# Altium footprint library Diode-Bridge.PcbLib: 18 footprints (part 1 of 2)
Each footprint in its own frame and in the unit in brackets; x right, y up, seen from the top. Pads: shape width x height; smd on the part's side, far side on the other; paste and mask are expansions set on the pad; w line width, h text height; cw(c..) or ccw(c..) is an arc to the next point about the centre after c.
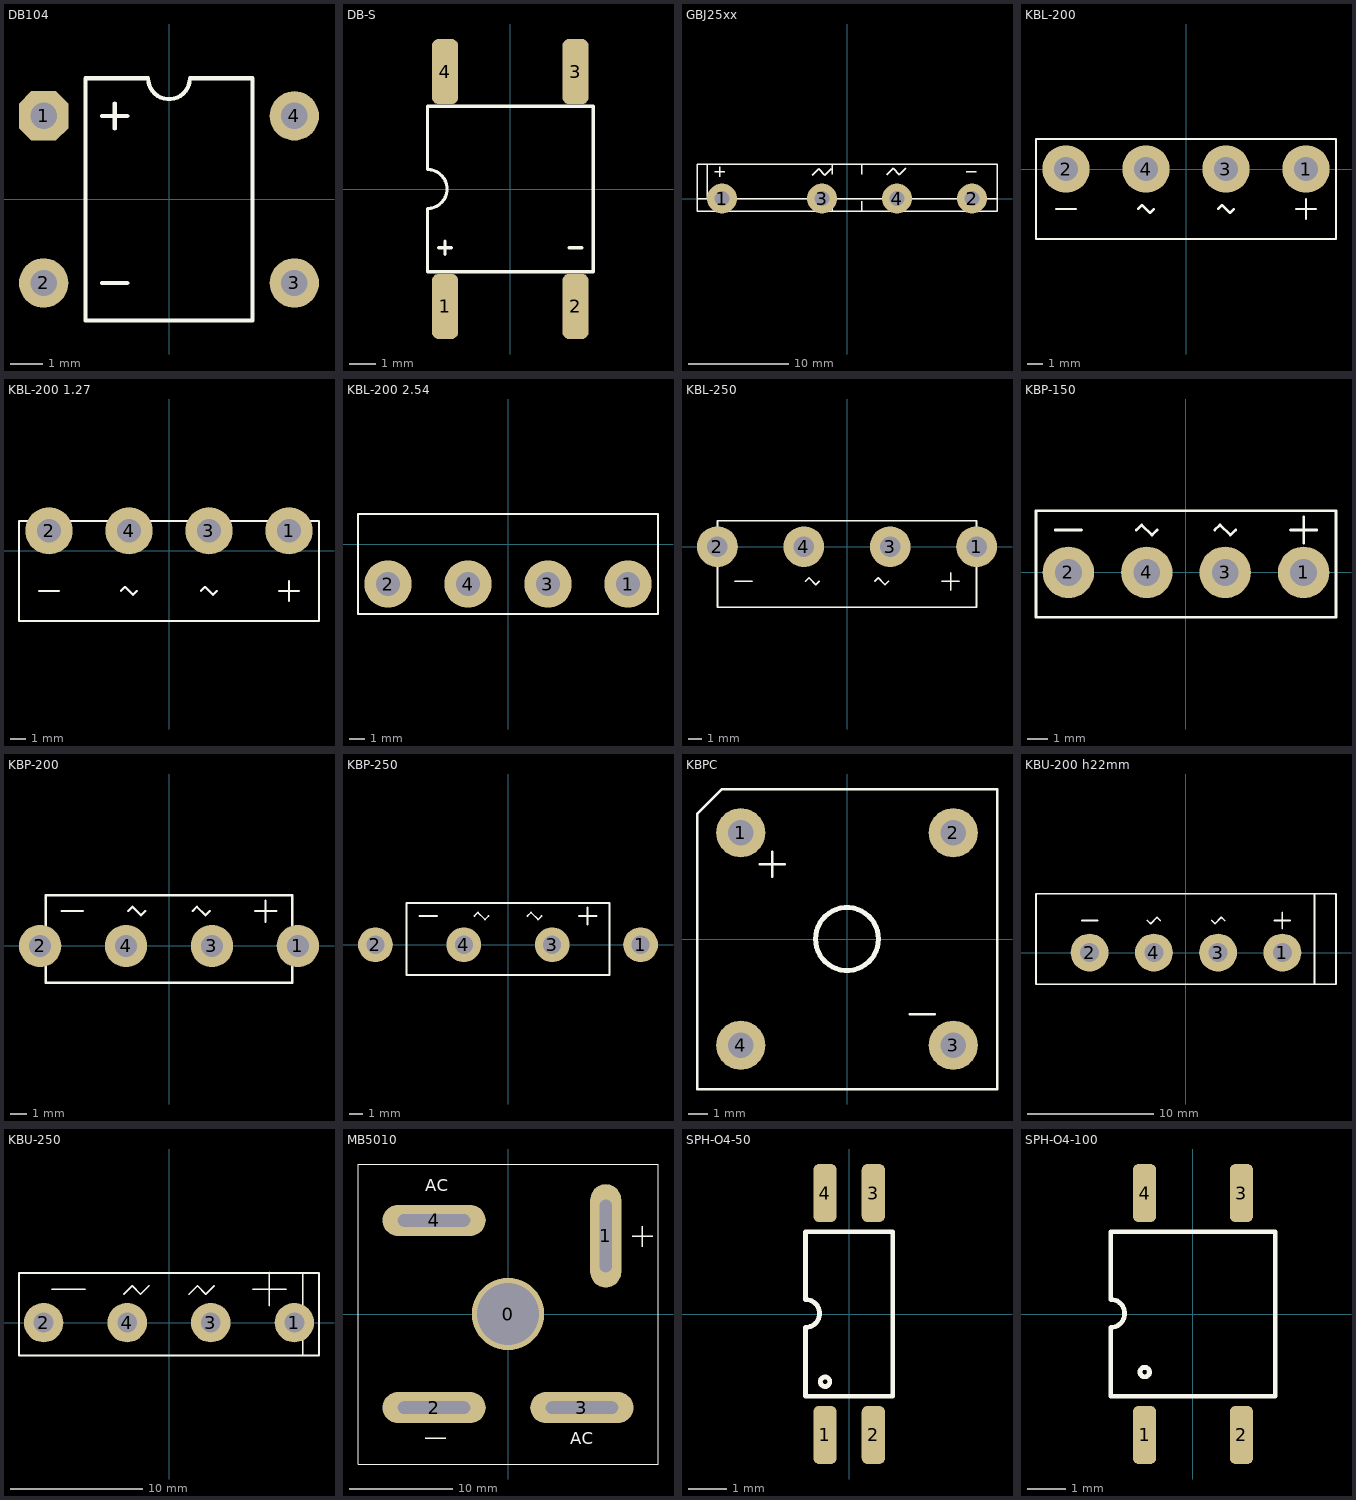
[diagram p0: the footprints below, top view; thin cyan lines are the x and y axes]

## DB104 [mm]
pads (4):
  oct 1.5x1.5 hole 0.8: 1(-3.81,2.54)
  round 1.5 hole 0.8: 2(-3.81,-2.54) 3(3.81,-2.54) 4(3.81,2.54)
Top Overlay:
  lines w0.127: -2.032,-2.54 -1.27,-2.54 ; -2.032,2.54 -1.27,2.54 ; -1.651,2.159 -1.651,2.921 ; -2.54,-3.683 2.54,-3.683 2.54,3.683 0.635,3.683 cw(c0,3.683) -0.635,3.683 -2.54,3.683 -2.54,-3.683
3D body: height 3.8, standoff -2.52, extent -3.993,-3.84 3.99,3.86

## DB-S [mm] "SMD 5mm x 9mm"
pads (4):
  rrect50% 1x2.5 smd: 1(-2.5,-4.5) 2(2.5,-4.5) 3(2.5,4.5) 4(-2.5,4.5)
Top Overlay:
  lines w0.127: -2.75,-2.25 -2.25,-2.25 ; -2.5,-2.5 -2.5,-2 ; 2.25,-2.25 2.75,-2.25 ; -3.175,-3.175 -3.175,-0.75 ccw(c-3.175,0) -3.175,0.75 -3.175,3.175 3.175,3.175 3.175,-3.175 -3.175,-3.175
3D body: height 3.35, standoff -0.05, extent -4.575,-5.025 4.575,5.025

## GBJ25xx [mm]
pads (4):
  round 3 hole 1.5: 1(-12.5,0) 2(12.5,0) 3(-2.5,0) 4(5,0)
Top Overlay:
  lines w0.127: -15,0 15,0 ; -14,0 -14,3.4 ; -13.2,2.667 -12.2,2.667 ; -12.7,2.167 -12.7,3.167 ; -3.484,2.341 -2.849,2.976 -2.214,2.341 -1.579,2.976 ; -1.5,-1.27 -1.5,-0.27 ; -1.5,2.4 -1.5,3.4 ; 1.5,-1.27 1.5,-0.27 ; 1.5,2.4 1.5,3.4 ; 3.969,2.388 4.604,3.023 5.239,2.388 5.874,3.023 ; 11.946,2.667 12.946,2.667 ; -15,-1.27 15,-1.27 15,3.4 -15,3.4 -15,-1.27
3D body: height 28, standoff -2, extent -15,-1.2 15,3.4

## KBL-200 [mm]
pads (4):
  round 3 hole 1.5: 1(7.62,0) 2(-7.62,0) 3(2.54,0) 4(-2.54,0)
Top Overlay:
  lines w0.127: -8.255,-2.54 -6.985,-2.54 ; -3.048,-2.54 -2.794,-2.286 -2.286,-2.794 -2.032,-2.54 ; 2.032,-2.54 2.286,-2.286 2.794,-2.794 3.048,-2.54 ; 6.985,-2.54 8.255,-2.54 ; 7.62,-3.175 7.62,-1.905 ; -9.525,-4.445 -9.525,1.905 9.525,1.905 9.525,-4.445 -9.525,-4.445
3D body: height 22.75, standoff -3.16, extent -9.5,-4.5 9.5,2

## KBL-200 1.27 [mm]
pads (4):
  round 3 hole 1.5: 1(7.62,1.27) 2(-7.62,1.27) 3(2.54,1.27) 4(-2.54,1.27)
Top Overlay:
  lines w0.127: -8.255,-2.54 -6.985,-2.54 ; -3.048,-2.54 -2.794,-2.286 -2.286,-2.794 -2.032,-2.54 ; 2.032,-2.54 2.286,-2.286 2.794,-2.794 3.048,-2.54 ; 6.985,-2.54 8.255,-2.54 ; 7.62,-3.175 7.62,-1.905 ; -9.525,-4.445 -9.525,1.905 9.525,1.905 9.525,-4.445 -9.525,-4.445
3D body: height 20.75, standoff -2.62, extent -9.5,-4.5 9.5,2

## KBL-200 2.54 [mm]
pads (4):
  round 3 hole 1.5: 1(7.62,-2.54) 2(-7.62,-2.54) 3(2.54,-2.54) 4(-2.54,-2.54)
Top Overlay:
  lines w0.127: -8.255,-2.54 -6.985,-2.54 ; -3.048,-2.54 -2.794,-2.286 -2.286,-2.794 -2.032,-2.54 ; 2.032,-2.54 2.286,-2.286 2.794,-2.794 3.048,-2.54 ; 6.985,-2.54 8.255,-2.54 ; 7.62,-3.175 7.62,-1.905 ; -9.525,-4.445 9.525,-4.445 9.525,1.905 -9.525,1.905 -9.525,-4.445
3D body: height 20.75, standoff -2.62, extent -9.5,-4.5 9.5,2

## KBL-250 [mm]
pads (4):
  round 3 hole 1.5: 1(9.525,0) 2(-9.525,0) 3(3.175,0) 4(-3.175,0)
Top Overlay:
  lines w0.127: -8.255,-2.54 -6.985,-2.54 ; -3.048,-2.54 -2.794,-2.286 -2.286,-2.794 -2.032,-2.54 ; 2.032,-2.54 2.286,-2.286 2.794,-2.794 3.048,-2.54 ; 6.985,-2.54 8.255,-2.54 ; 7.62,-3.175 7.62,-1.905 ; -9.525,-4.445 -9.525,1.905 9.525,1.905 9.525,-4.445 -9.525,-4.445
3D body: height 20.83, standoff -5.08, extent -10.2,-4.5 10.2,2

## KBP-150 [mm]
pads (4):
  round 2.5 hole 1.3: 1(5.715,0) 2(-5.715,0) 3(1.905,0) 4(-1.905,0)
Top Overlay:
  lines w0.127: -6.35,2.062 -5.08,2.062 ; -2.413,2.062 -2.159,2.316 -1.651,1.808 -1.397,2.062 ; 1.397,2.062 1.651,2.316 2.159,1.808 2.413,2.062 ; 5.08,2.062 6.35,2.062 ; 5.715,1.427 5.715,2.697 ; -7.289,-2.18 7.29,-2.18 7.29,3 -7.289,3 -7.289,-2.18
3D body: height 19, standoff -2.66, extent -7.289,-2.18 7.29,3

## KBP-200 [mm]
pads (4):
  round 2.5 hole 1.3: 1(7.62,0) 2(-7.62,0) 3(2.54,0) 4(-2.54,0)
Top Overlay:
  lines w0.127: -6.35,2.062 -5.08,2.062 ; -2.413,2.062 -2.159,2.316 -1.651,1.808 -1.397,2.062 ; 1.397,2.062 1.651,2.316 2.159,1.808 2.413,2.062 ; 5.08,2.062 6.35,2.062 ; 5.715,1.427 5.715,2.697 ; -7.289,-2.18 7.29,-2.18 7.29,3 -7.289,3 -7.289,-2.18
3D body: height 16.58, standoff -5.08, extent -8.02,-2.18 8.02,3

## KBP-250 [mm]
pads (4):
  round 2.5 hole 1.3: 1(9.525,0) 2(-9.525,0) 3(3.175,0) 4(-3.175,0)
Top Overlay:
  lines w0.127: -6.35,2.062 -5.08,2.062 ; -2.413,2.062 -2.159,2.316 -1.651,1.808 -1.397,2.062 ; 1.397,2.062 1.651,2.316 2.159,1.808 2.413,2.062 ; 5.08,2.062 6.35,2.062 ; 5.715,1.427 5.715,2.697 ; -7.289,-2.18 7.29,-2.18 7.29,3 -7.289,3 -7.289,-2.18
3D body: height 19.12, standoff -2.54, extent -9.925,-2.18 9.925,3

## KBPC [mm]
pads (4):
  round 2.5 hole 1.3: 1(-5.397,5.397) 2(5.397,5.397) 3(5.397,-5.397) 4(-5.397,-5.397)
Top Overlay:
  circle w0.254: c0,0 r1.6
  lines w0.127: -4.445,3.81 -3.175,3.81 ; -3.81,3.175 -3.81,4.445 ; 3.175,-3.81 4.445,-3.81 ; -7.62,-7.62 -7.62,6.35 -6.35,7.62 7.62,7.62 7.62,-7.62 -7.62,-7.62

## KBU-200 h22mm [mm]
pads (4):
  round 3 hole 1.5: 1(7.62,0) 2(-7.62,0) 3(2.54,0) 4(-2.54,0)
Top Overlay:
  lines w0.127: -8.255,2.54 -6.985,2.54 ; -3.048,2.54 -2.794,2.286 -2.286,2.794 -2.032,2.54 ; 2.032,2.54 2.286,2.286 2.794,2.794 3.048,2.54 ; 6.985,2.54 8.255,2.54 ; 7.62,1.905 7.62,3.175 ; 10.16,-2.413 10.16,4.65 ; -11.857,-2.5 -11.857,4.65 11.857,4.65 11.857,-2.5 -11.857,-2.5
3D body: height 29.9, standoff -5.4, extent -11.857,-2.451 11.858,4.65

## KBU-250 [mm]
pads (4):
  round 3 hole 1.5: 1(9.525,0) 2(-9.525,0) 3(3.175,0) 4(-3.175,0)
Top Overlay:
  lines w0.127: -11.39,-2.5 -11.39,3.77 11.39,3.77 11.39,-2.5 ; -11.39,-2.5 11.39,-2.5 ; -8.89,2.54 -6.35,2.54 ; -3.429,2.159 -2.794,2.794 -2.159,2.159 -1.524,2.794 ; 1.524,2.159 2.159,2.794 2.794,2.159 3.429,2.794 ; 6.35,2.54 8.89,2.54 ; 7.62,1.27 7.62,3.81 ; 10.16,-2.413 10.16,3.683

## MB5010 [mm]
pads (5):
  round 7 hole 6: 0(0,0)
  oval 3x10 hole 1.2 slot 7 at 90 deg: 1(9.45,7.55)
  oval 10x3 hole 1.2 slot 7 at 0 deg: 2(-7.15,-9.05) 3(7.15,-9.05) 4(-7.15,9.05)
Top Overlay:
  lines w0.1: -14.5,-14.5 14.5,-14.5 14.5,14.5 -14.5,14.5 -14.5,-14.5
  lines w0.127: -8,-12 -6,-12 ; 12,7.5 14,7.5 ; 13,6.5 13,8.5
  text "AC" at 6,-13 h2
  text "AC" at -8,11.5 h2

## SPH-O4-50 [mil] "SMD 1.27mm x 6.35mm"
pads (4):
  rrect50% 24x60 smd: 1(-25,-125) 2(25,-125) 3(25,125) 4(-25,125)
Top Overlay:
  circle w5: c-24.92,-70 r4.92
  lines w5: -45,-15 -45,-85 45,-85 45,85 -45,85 -45,15 cw(c-45,0.56) -45,-13.87

## SPH-O4-100 [mil] "SMD 2.54mm - 6.35mm"
pads (4):
  rrect50% 24x60 smd: 1(-50,-125) 2(50,-125) 3(50,125) 4(-50,125)
Top Overlay:
  circle w5: c-49.92,-60 r4.92
  lines w5: -85,-14.33 -85,-85 85,-85 85,85 -85,85 -85,15 cw(c-85,0.56) -85,-13.87